# Altium footprint library IHLP.PcbLib: 2 footprints
Each footprint in its own frame and in the unit in brackets; x right, y up, seen from the top. Pads: shape width x height; smd on the part's side, far side on the other; paste and mask are expansions set on the pad; w line width, h text height; cw(c..) or ccw(c..) is an arc to the next point about the centre after c.
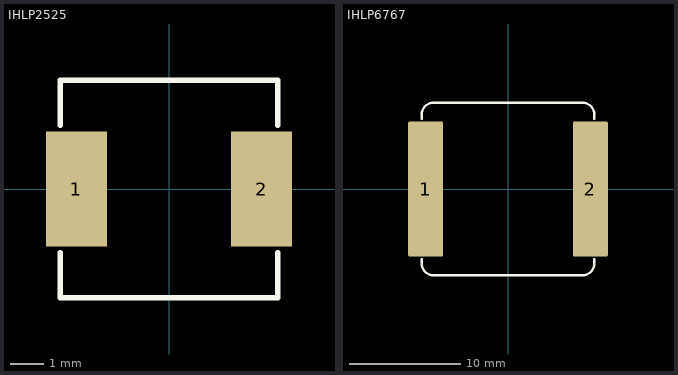
[diagram p0: the footprints below, top view; thin cyan lines are the x and y axes]

## IHLP2525 [mil] "Vishay/Dale IHLP2525"
height 118.11
pads (2):
  rect 72x135 smd paste-1968.5: 1(-109,0) 2(109,0)
Top Overlay:
  lines w6: -128,-75 -128,-128 128,-128 128,-75 ; -128,75 -128,128 128,128 128,75
3D body: height 98.43, standoff 0, extent -135,-63 135,63
3D body: height 118.11, standoff 0, extent -130,-130 130,130

## IHLP6767 [mil] "Vishay/Dale IHLP6767"
height 275.59
pads (2):
  rrect10% 125x479.92 smd: 1(-292.5,0) 2(292.5,0)
Top Overlay:
  lines w7.87: -306.5,-249.02 -306.5,-264.37 ccw(c-264.37,-264.37) -264.37,-306.5 264.37,-306.5 ccw(c264.37,-264.37) 306.5,-264.37 306.5,-249.02 ; -306.5,249.02 -306.5,264.37 cw(c-264.37,264.37) -264.37,306.5 264.37,306.5 cw(c264.37,264.37) 306.5,264.37 306.5,249.02
3D body: height 59.06, standoff 0, extent -318.9,-240.16 -251.97,240.16
3D body: height 59.06, standoff 0, extent 251.96,-240.85 318.89,239.47
3D body: height 275.59, standoff 7.87, extent -306.88,-306.88 306.88,306.88
3D body: height 275.59, standoff 0, extent -216.52,-306.48 216.52,306.48